# Altium footprint library PMGlibPCB.PcbLib: 33 footprints (part 1 of 3)
Each footprint in its own frame and in the unit in brackets; x right, y up, seen from the top. Pads: shape width x height; smd on the part's side, far side on the other; paste and mask are expansions set on the pad; w line width, h text height; cw(c..) or ccw(c..) is an arc to the next point about the centre after c.
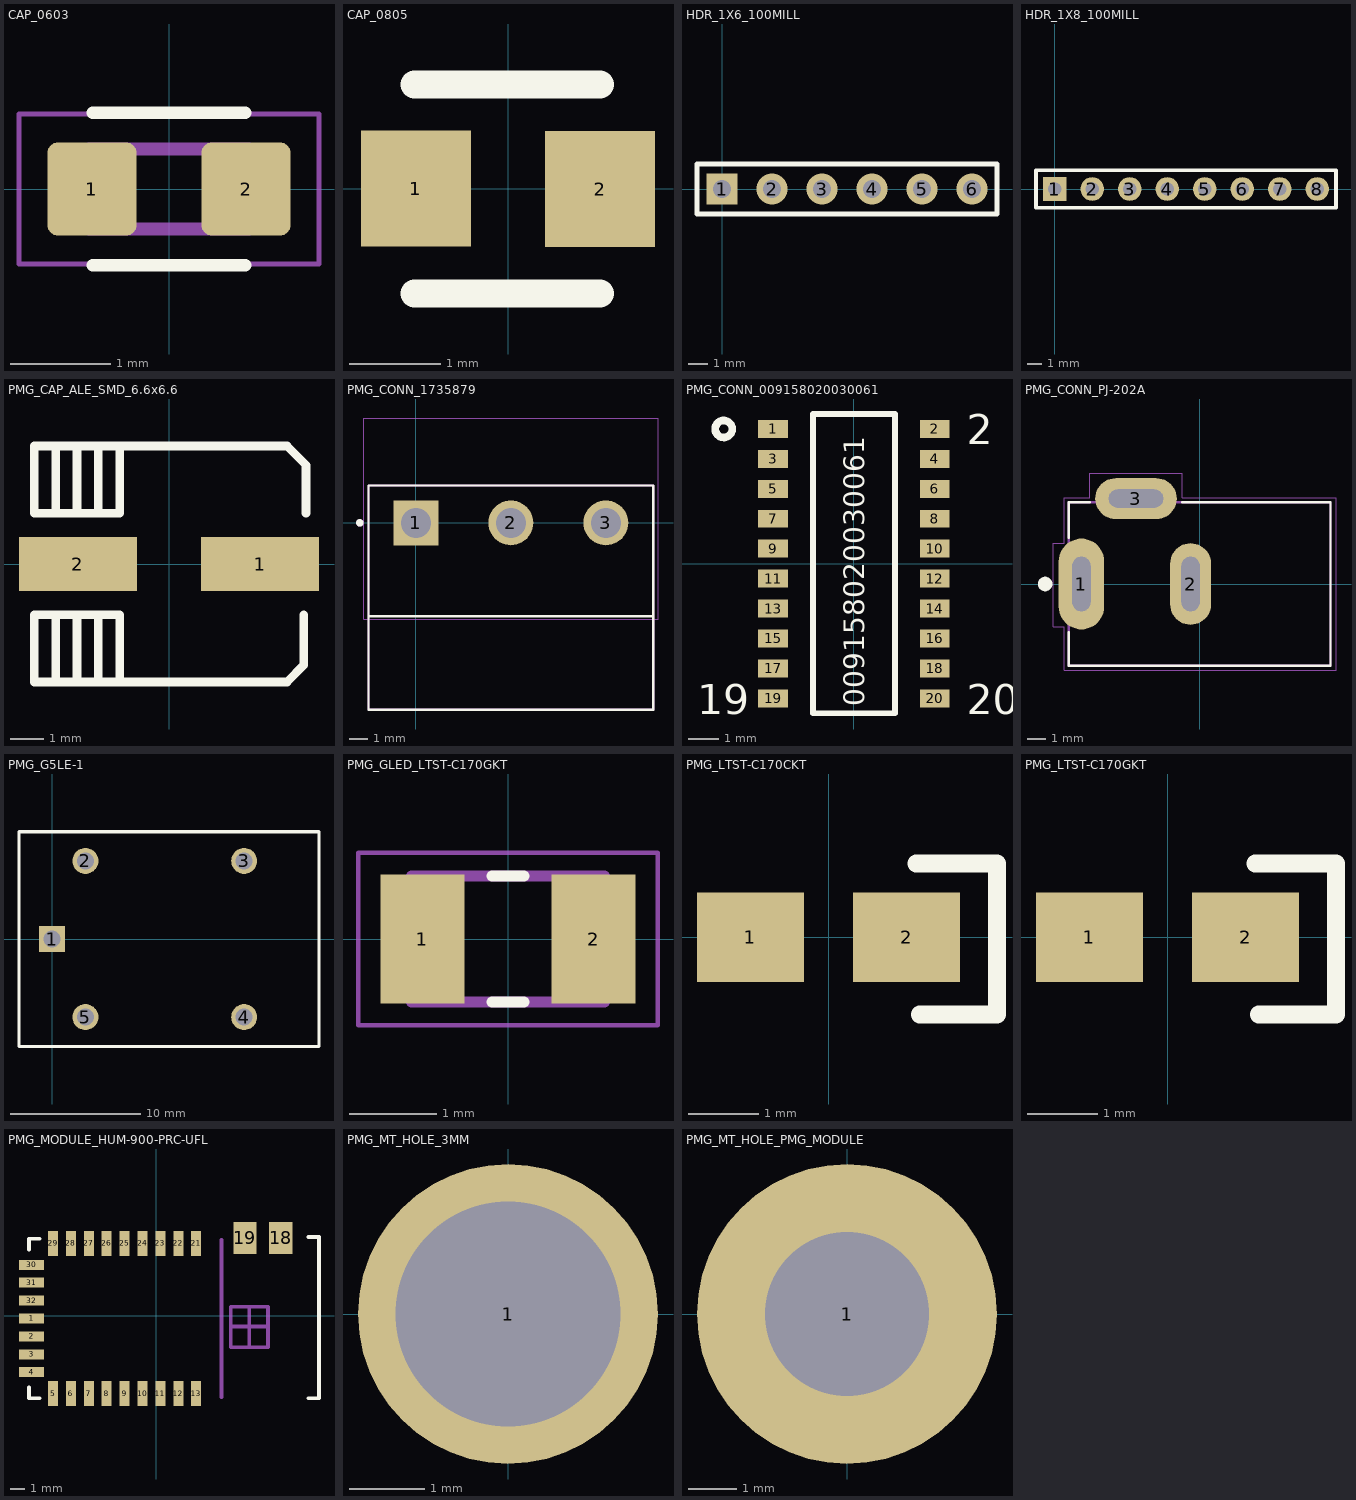
[diagram p0: the footprints below, top view; thin cyan lines are the x and y axes]

## CAP_0603 [mm] "CAP 0603 50V"
height 0.9
pads (2):
  rrect22% 0.89x0.93 smd: 1(-0.77,0) 2(0.77,0)
Top Overlay:
  lines w0.127: -0.762,-0.762 0.762,-0.762 ; -0.762,0.762 0.762,0.762
3D Top:
  circle w0.1: c-1.05,0 r0.05
  lines w0.127: -0.8,-0.4 -0.8,0.4 0.8,0.4 0.8,-0.4 -0.8,-0.4
Courtyard Top:
  lines w0.05: -1.5,-0.75 -1.5,0.75 1.5,0.75 1.5,-0.75 -1.5,-0.75
3D body: height 0.85, standoff -0.05, extent -0.8,-0.405 0.8,0.405

## CAP_0805 [mm]
height 1
pads (2):
  rect 1.2x1.27 smd: 1(-1.008,0.003) 2(1.008,-0.003)
Top Overlay:
  lines w0.305: -1.024,-1.146 1.008,-1.146 ; -1.024,1.14 1.008,1.14
3D body: height 1.26, standoff 0.01, extent -1.05,-0.625 0.95,0.625

## HDR_1X6_100MILL [mm] "SINGLE ROW 6 PIN HDR 2.54MM"
pads (6):
  rect 1.6x1.6 hole 0.9: 1(0,0)
  round 1.6 hole 0.9: 2(2.54,0) 3(5.08,0) 4(7.62,0) 5(10.16,0) 6(12.7,0)
Top Overlay:
  lines w0.254: -1.27,-1.27 13.97,-1.27 13.97,1.27 -1.27,1.27 -1.27,-1.27
3D body: height 2.54, standoff 0, extent -1.27,-1.27 13.97,1.27
3D body: height 7.54, standoff 2.54, extent -0.893,-0.898 0.9,0.898
3D body: height 7.54, standoff 2.54, extent 1.647,-0.898 3.44,0.898
3D body: height 7.54, standoff 2.54, extent 4.187,-0.898 5.98,0.898
3D body: height 7.54, standoff 2.54, extent 6.727,-0.898 8.52,0.898
3D body: height 7.54, standoff 2.54, extent 9.267,-0.898 11.06,0.898
3D body: height 7.54, standoff 2.54, extent 11.807,-0.898 13.6,0.898

## HDR_1X8_100MILL [mm] "SINGLE ROW 8 PIN HDR 2.54MM"
height 7.62
pads (8):
  rect 1.6x1.6 hole 0.9: 1(0,0)
  round 1.6 hole 0.9: 2(2.54,0) 3(5.08,0) 4(7.62,0) 5(10.16,0) 6(12.7,0) 7(15.24,0) 8(17.78,0)
Top Overlay:
  lines w0.254: -1.27,-1.27 -1.27,1.27 19.05,1.27 19.05,-1.27 -1.27,-1.27
3D body: height 7.54, standoff 2.54, extent 11.807,-0.898 13.6,0.898
3D body: height 7.54, standoff 2.54, extent 9.267,-0.898 11.06,0.898
3D body: height 7.54, standoff 2.54, extent 6.727,-0.898 8.52,0.898
3D body: height 7.54, standoff 2.54, extent 4.187,-0.898 5.98,0.898
3D body: height 7.54, standoff 2.54, extent 1.647,-0.898 3.44,0.898
3D body: height 7.54, standoff 2.54, extent -0.893,-0.898 0.9,0.898
3D body: height 2.54, standoff 0, extent -1.27,-1.27 19.05,1.27
3D body: height 7.54, standoff 2.54, extent 14.347,-0.898 16.14,0.898
3D body: height 7.54, standoff 2.54, extent 16.887,-0.898 18.68,0.898

## PCBComponent_1 [mm]

## PMG_CAP_ALE_SMD_6.6x6.6 [mm] "CAP_ALE BODY SIZE 6.6mm x 6.6mm 3.9mm Tall"
height 4
pads (2):
  rect 3.5x1.6 smd: 1(2.7,0) 2(-2.7,0)
Top Overlay:
  lines w0.254: -4,-2.04 -4,-1.913 ; -4,1.913 -4,2.04 ; -3.365,-3.5 -3.365,-1.5 ; -3.365,1.5 -3.365,3.5 ; -2.73,-3.5 -2.73,-1.5 ; -2.73,1.5 -2.73,3.5 ; -2.095,-3.5 -2.095,-1.5 ; -2.095,1.5 -2.095,3.5 ; -1.46,-3.5 -1.46,-1.5 -4,-1.5 -4,-3.5 3.5,-3.5 4,-3 4,-1.5 ; -1.46,3.5 -1.46,1.5 -4,1.5 -4,3.5 3.5,3.5 4.065,2.935 4.065,1.5
3D body: height 3.91, standoff 0, extent -3.52,-3.3 3.48,3.3

## PMG_CONN_1735879 [mm] "TERM BLOCK HDR 3POS 90DEG 5.08MM"
height 12.45
pads (3):
  rect 2.4x2.4 hole 1.6: 1(0,0)
  round 2.4 hole 1.6: 2(5.08,0) 3(10.16,0)
Top Overlay:
  circle w0.2: c-3,0 r0.1
  lines w0.127: -2.54,-5 12.7,-5 ; -2.54,-10 12.7,-10 12.7,2 -2.54,2 -2.54,-10
3D Top:
  circle w0.2: c-3,0 r0.1
  lines w0.127: -2.54,-10 12.7,-10 12.7,2 -2.54,2 -2.54,-10
Courtyard Top:
  lines w0.05: -2.79,-5.15 -2.79,5.6 12.95,5.6 12.95,-5.15 -2.79,-5.15
3D body: height 12.4, standoff -3.5, extent -2.54,-10.001 12.7,2.001

## PMG_CONN_009158020030061 [mm] "AVX CONN 009158020030061"
height 2.8
pads (20):
  rect 1x0.6 smd: 1(-2.7,4.5) 2(2.7,4.5) 3(-2.7,3.5) 4(2.7,3.5) 5(-2.7,2.5) 6(2.7,2.5) 7(-2.7,1.5) 8(2.7,1.5) 9(-2.7,0.5) 10(2.7,0.5) 11(-2.7,-0.5) 12(2.7,-0.5) 13(-2.7,-1.5) 14(2.7,-1.5) 15(-2.7,-2.5) 16(2.7,-2.5) 17(-2.7,-3.5) 18(2.7,-3.5) 19(-2.7,-4.5) 20(2.7,-4.5)
Top Overlay:
  circle w0.254: c-4.351,4.5 r0.284
  lines w0.2: -1.365,-5 1.365,-5 1.365,5 -1.365,5 -1.365,-5
  text "19" at -5.24,-5.025 h1
  text "20" at 3.777,-5.025 h1
  text "2" at 3.777,3.992 h1
  text "009158020030061" at 0.348,-4.771 h0.68
3D body: height 2.8, standoff 0, extent -2.7,-5.152 2.7,5.135
3D body: height 3, standoff 2.8, extent -2.525,4.246 -0.874,4.754
3D body: height 3, standoff 2.8, extent 0.92,3.246 2.571,3.754
3D body: height 3, standoff 2.8, extent 0.92,2.246 2.571,2.754
3D body: height 3, standoff 2.8, extent 0.92,1.246 2.571,1.754
3D body: height 3, standoff 2.8, extent 0.92,0.246 2.571,0.754
3D body: height 3, standoff 2.8, extent 0.92,-0.754 2.571,-0.246
3D body: height 3, standoff 2.8, extent 0.92,-1.754 2.571,-1.246
3D body: height 3, standoff 2.8, extent 0.92,-2.754 2.571,-2.246
3D body: height 3, standoff 2.8, extent 0.92,-3.754 2.571,-3.246
3D body: height 3, standoff 2.8, extent -2.525,3.246 -0.874,3.754
3D body: height 3, standoff 2.8, extent -2.525,2.246 -0.874,2.754
3D body: height 3, standoff 2.8, extent -2.525,1.246 -0.874,1.754
3D body: height 3, standoff 2.8, extent -2.525,0.246 -0.874,0.754
3D body: height 3, standoff 2.8, extent -2.525,-0.754 -0.874,-0.246
3D body: height 3, standoff 2.8, extent -2.525,-1.754 -0.874,-1.246
3D body: height 3, standoff 2.8, extent -2.525,-2.754 -0.874,-2.246
3D body: height 3, standoff 2.8, extent -2.525,-3.754 -0.874,-3.246
3D body: height 3, standoff 2.8, extent -2.525,-4.754 -0.874,-4.246
3D body: height 3, standoff 2.8, extent 0.92,4.246 2.571,4.754
3D body: height 3, standoff 2.8, extent 0.92,-4.754 2.571,-4.246

## PMG_CONN_PJ-202A [mm] "CUI PJ-202A CONNECTOR"
height 11
pads (3):
  oval 2.5x5 hole 1 slot 3 at 90 deg: 1(-6.5,0)
  oval 2.25x4.5 hole 1 slot 3 at 90 deg: 2(-0.5,0)
  oval 4.5x2.25 hole 1 slot 3 at 0 deg: 3(-3.5,4.7)
Top Overlay:
  circle w0.4: c-8.5,0 r0.2
  lines w0.127: -7.2,-2.65 -7.2,-4.5 7.2,-4.5 7.2,4.5 -0.95,4.5 ; -7.2,2.55 -7.2,4.5 -6.05,4.5
3D Top:
  lines w0.127: -7.2,-4.5 -7.2,4.5 7.2,4.5 7.2,-4.5 -7.2,-4.5
Courtyard Top:
  lines w0.05: -8.05,-2.35 -7.45,-2.35 -7.45,-4.75 7.5,-4.75 7.5,4.75 -0.95,4.75 -0.95,6.1 -6.05,6.1 -6.05,4.75 -7.45,4.75 -7.45,2.25 -8.05,2.25 -8.05,-2.35
3D body: height 11, standoff -3.5, extent -7.327,-4.701 7.073,4.699

## PMG_G5LE-1 [mm] "Relay G5LE-1-36 DC5"
height 19
pads (5):
  rect 2x2 hole 1.3: 1(0,0)
  round 2 hole 1.3: 2(2.55,6) 3(14.75,6) 4(14.75,-6) 5(2.55,-6)
Top Overlay:
  lines w0.254: 18.918,8.25 18.923,8.255 ; -2.55,-8.25 -2.55,8.25 20.5,8.25 20.5,-8.25 -2.55,-8.25
3D body: height 19, standoff 0, extent -2.54,-8.255 20.447,8.255

## PMG_GLED_LTST-C170GKT [mm] "DIODE LED GREEN 0805"
pads (2):
  rect 0.96x1.47 smd: 1(-0.978,0) 2(0.978,0)
Top Overlay:
  lines w0.127: -0.18,-0.72 0.18,-0.72 ; -0.18,0.72 0.18,0.72
3D Top:
  lines w0.127: -1.1,-0.72 1.1,-0.72 1.1,0.72 -1.1,0.72 -1.1,-0.72
Courtyard Top:
  lines w0.05: -1.708,-0.983 1.708,-0.983 1.708,0.983 -1.708,0.983 -1.708,-0.983

## PMG_LTST-C170CKT [mil] "LTST-C170CKT"
height 43.31
pads (2):
  rect 60x50 smd: 1(-43.78,0) 2(43.78,0)
Top Overlay:
  lines w10: 49.21,41.34 94.49,41.34 94.49,-43.31 51.18,-43.31
3D body: height 43.31, standoff 0, extent -60,-30 65,30

## PMG_LTST-C170GKT [mil] "LTST-C170GKT"
height 43.31
pads (2):
  rect 60x50 smd: 1(-43.78,0) 2(43.78,0)
Top Overlay:
  lines w10: 49.21,41.34 94.49,41.34 94.49,-43.31 51.18,-43.31
3D body: height 43.31, standoff 0, extent -60,-30 65,30

## PMG_MODULE_HUM-900-PRC-UFL [mil] "RX TXRX MOD ISM < 1GHZ U.FL SMD"
height 116.14
pads (27):
  rect 70x28 smd: 1(-348,-7.5) 2(-348,-57.5) 3(-348,-107.5) 4(-348,-157.5) 30(-348,142.5) 31(-348,92.5) 32(-348,42.5)
  rect 28x70 smd: 5(-288,-217.5) 6(-238,-217.5) 7(-188,-217.5) 8(-138,-217.5) 9(-88,-217.5) 10(-38,-217.5) 11(12,-217.5) 12(62,-217.5) 13(112,-217.5) 21(112,202.5) 22(62,202.5) 23(12,202.5) 24(-38,202.5) 25(-88,202.5) 26(-138,202.5) 27(-188,202.5) 28(-238,202.5) 29(-288,202.5)
  rect 65x90 smd: 18(348,217.5) 19(248,217.5)
Top Overlay:
  lines w10: -355,-200 -355,-230 -325,-230 ; -355,185 -355,215 -325,215 ; 425,-230 455,-230 455,220 425,220
3D Top:
  lines w10: 182.58,-227.5 182.58,212.5 ; 208.57,-30 312.5,-30 ; 260.54,-87.5 260.54,24.78 ; 312.5,-87.5 312.5,25 ; 312.5,-87.5 312.5,25 ; 312.5,-87.5 208.57,-87.5 208.57,24.57 209,25 312.5,25
3D body: height 88.58, standoff 20.85, extent 208.57,-81.87 312.09,21.86
3D body: height 38.7, standoff 29.04, extent 208.57,-87.5 312.5,27.5
3D body: height 87.11, standoff 29.06, extent -356,-232.5 182.58,217.5
3D body: height 29.04, standoff 0, extent -356,-232.5 455.81,217.5

## PMG_MT_HOLE_3MM [mm] "3MM IN D"
pads (1):
  round 4 hole 3: 1(0,0)

## PMG_MT_HOLE_PMG_MODULE [mil] "245MIL OD, 134ID"
pads (1):
  round 245 hole 134: 1(0,0)